# EAGLE library part TVS-ARRAY (library angrypig7-Diodes)
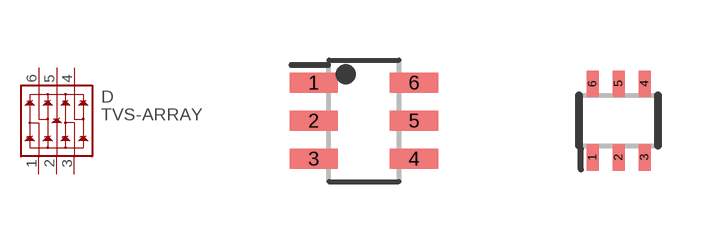
[diagram p0: symbol with the pads of SPT-23-6; footprints SPT-23-6, SOT-363(SC-70-6)]

Designator prefix D

## TVS-ARRAY_SOT-23-6  [SPT-23-6]
1  IO1
2  VSS
3  IO2
4  IO3
5  VCC
6  IO4

## TVS-ARRAY_SOT-363  [SOT-363(SC-70-6)]
Pads as for SPT-23-6

## Footprint SPT-23-6 (pad centres in mm)
6-SOT23, 0.95 mm pitch, 2.80 mm span, 2.90 X 1.63 X 1.45 mm body 6-pin SOT23 package with 0.95 mm pitch, 2.80 mm span with body size 2.90 X 1.63 X 1.45 mm
smd 1.209 x 0.51: 1 -1.253,0.95; 2 -1.253,0; 3 -1.253,-0.95; 4 1.253,-0.95; 5 1.253,0; 6 1.253,0.95

## Footprint SOT-363(SC-70-6) (pad centres in mm)
SC-88/SC70-6/SOT-363 6-pin Package Example Datasheet <http://www.onsemi.com/pub_link/Collateral/MBT3904DW1T1-D.PDF>
smd 0.3 x 0.66: 1 -0.65,-0.92; 2 0,-0.92; 3 0.65,-0.92; 4 0.65,0.92; 5 0,0.92; 6 -0.65,0.92